# EAGLE library part FX23L-20P-0.5SV12 (library FX23L-20P-0.5SV12)
Hirose FX23 Series, 0.5mm Pitch 20 Way 2 Row Right Angle PCB Header, Solder Termination, 0.5 (Signal) A, 3 (Power) A <http://uk.rs-online.com/largeimages/R9091819-01.jpg> Source: Datasheet <https://www.hirose.com/product/en/download_file/key_name/FX23L-20P-0.5SV12/category/Drawing (2D)/doc_file_id/54948/?file_category_id=6&item_id=05732201400&is_series=>
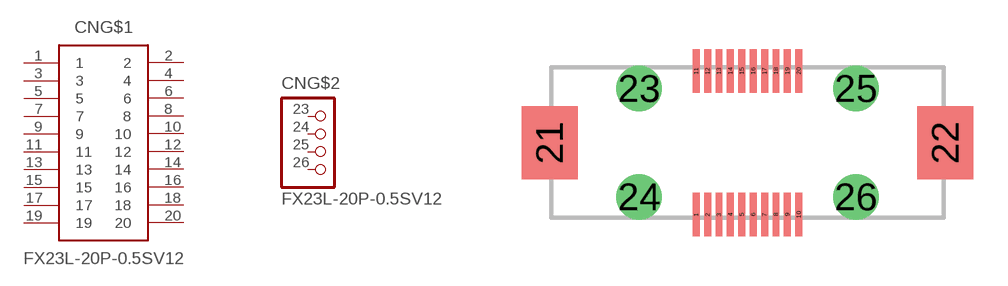
[diagram p0: symbol with the pads of FX23L-20P-0.5SV12; footprint FX23L-20P-0.5SV12]

Designator prefix CN; gates G$1=FX23L-20P-0.5SV12 G$2=CON-1X4

## FX23L-20P-0.5SV12 (DESCRIPTION: Hirose FX23 Series, 0.5mm Pitch 20 Way 2 Row Right Angle PCB Header, Solder Termination, 0.5 (Signal) A, 3 (Power) A; HEIGHT: mm; MANUFACTURER_NAME: Hirose; MANUFACTURER_PART_NUMBER: FX23L-20P-0.5SV12; RS_PART_NUMBER: 9091862; SUPPLIER_NAME: RS)  [FX23L-20P-0.5SV12]
1  G$1:1  pas
2  G$1:2  pas
3  G$1:3  pas
4  G$1:4  pas
5  G$1:5  pas
6  G$1:6  pas
7  G$1:7  pas
8  G$1:8  pas
9  G$1:9  pas
10  G$1:10  pas
11  G$1:11  pas
12  G$1:12  pas
13  G$1:13  pas
14  G$1:14  pas
15  G$1:15  pas
16  G$1:16  pas
17  G$1:17  pas
18  G$1:18  pas
19  G$1:19  pas
20  G$1:20  pas
23  G$2:1  pas
24  G$2:2  pas
25  G$2:3  pas
26  G$2:4  pas

## Footprint FX23L-20P-0.5SV12 (pad centres in mm)
FX23L-20P-0.5SV12
smd 0.3 x 1.9: 1 -2.25,-3.15; 2 -1.75,-3.15; 3 -1.25,-3.15; 4 -0.75,-3.15; 5 -0.25,-3.15; 6 0.25,-3.15; 7 0.75,-3.15; 8 1.25,-3.15; 9 1.75,-3.15; 10 2.25,-3.15; 11 -2.25,3.15; 12 -1.75,3.15; 13 -1.25,3.15; 14 -0.75,3.15; 15 -0.25,3.15; 16 0.25,3.15; 17 0.75,3.15; 18 1.25,3.15; 19 1.75,3.15; 20 2.25,3.15
smd 2.45 x 3.2: 21 -8.675,0; 22 8.675,0
drill 1.3 pad 2: 23 -4.75,2.375; 24 -4.75,-2.375; 25 4.75,2.375; 26 4.75,-2.375